# Altium footprint library AM1L-2405SH30-FZ.PcbLib: 1 footprints
Each footprint in its own frame and in the unit in brackets; x right, y up, seen from the top. Pads: shape width x height; smd on the part's side, far side on the other; paste and mask are expansions set on the pad; w line width, h text height; cw(c..) or ccw(c..) is an arc to the next point about the centre after c.
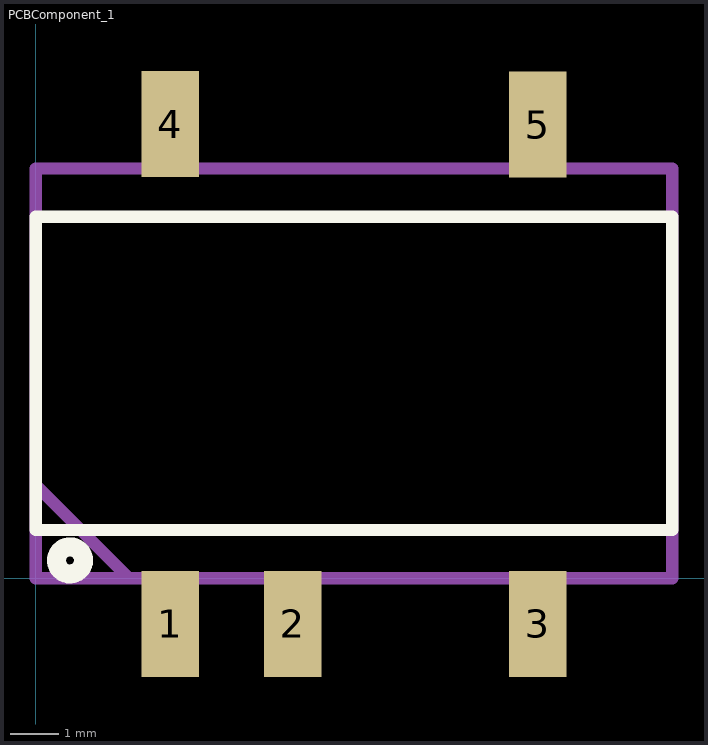
[diagram p0: the footprint, top view; thin cyan lines are the x and y axes]

## PCBComponent_1 [mm]
pads (5):
  rect 1.2x2.2 smd: 1(2.79,-0.947) 2(5.33,-0.947) 3(10.41,-0.947) 4(2.79,9.42) 5(10.41,9.41)
Top Overlay:
  circle w0.254: c0.709,0.37 r0.211
  circle w0.254: c0.709,0.37 r0.351
  lines w0.254: 0,1 13.2,1 13.2,7.5 0,7.5 0,1
Mechanical 1:
  lines w0.254: 0.01,8.5 0,8.5 ; 0.03,1.9 1.93,0 2.14,0 ; 0,8.5 13.2,8.5 ; 0,8.5 0,0 13.2,0 ; 13.2,0 13.2,8.5 ; 13.2,0 13.2,8.5
3D body: height 7, standoff 0, extent 0,0 13.2,8.5